# Altium footprint library VSON-8.PcbLib: 1 footprints
Each footprint in its own frame and in the unit in brackets; x right, y up, seen from the top. Pads: shape width x height; smd on the part's side, far side on the other; paste and mask are expansions set on the pad; w line width, h text height; cw(c..) or ccw(c..) is an arc to the next point about the centre after c.
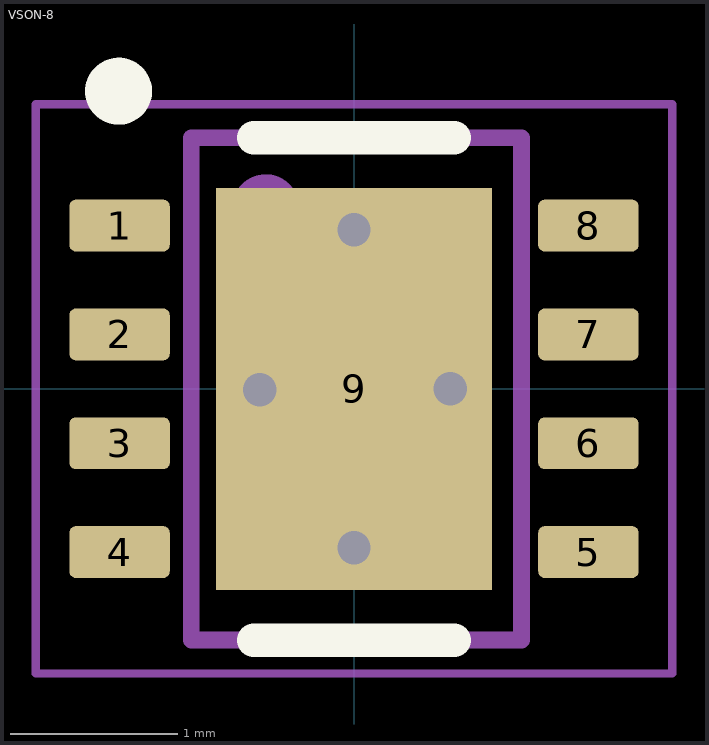
[diagram p0: the footprint, top view; thin cyan lines are the x and y axes]

## VSON-8 [mm] "VSON-8 Package"
height 1
pads (9):
  rrect25% 0.6x0.31 smd mask+0.07: 1(-1.4,0.975) 2(-1.4,0.325) 3(-1.4,-0.325) 4(-1.4,-0.975) 5(1.4,-0.975) 6(1.4,-0.325) 7(1.4,0.325) 8(1.4,0.975)
  rect 1.65x2.4 smd paste-2539.97 mask+0.07: 9(0,0)
via 0,-0.95 diameter 0.4 hole 0.2
via 0,0.95 diameter 0.4 hole 0.2
via 0.575,0 diameter 0.4 hole 0.2
via -0.563,-0.005 diameter 0.4 hole 0.2
Top Overlay:
  circle w0.2: c-1.406,1.777 r0.1
  lines w0.2: -0.6,-1.5 0.6,-1.5 ; -0.6,1.5 0.6,1.5
Top Paste:
  rectangle: -0.755,-1.16 0.755,-0.1
  region: 0.755,1.16 -0.755,1.16 -0.755,0.1 0.755,0.1
Top Assembly:
  circle w0.2: c-0.527,1.081 r0.1
  lines w0.1: -0.972,-1.5 -0.972,1.5 1,1.5 1,-1.5 -0.972,-1.5
Top Courtyard:
  lines w0.05: -1.9,-1.7 1.9,-1.7 1.9,1.7 -1.9,1.7 -1.9,-1.7
  lines w0.1: -0.3,0 0.3,0 ; 0,-0.3 0,0.3
Top Designator:
  text ".Designator" at -1.999,-0.133 h0.4
3D body "DRB0008J.stp": height 1, standoff 0, extent -1.5,-1.5 1.5,1.5